# EAGLE library part WE-D-SUB_THT90_MS_214112043 (library WE-D-SUB)
WE-D-SUB Filter Bent 90° THT Characteristics Standard type filtered with 1000 pF High attenuation: max. ≥ 40 dB @ 180 MHz Choice of earthing metal sheet or high speed earthing clip Rated voltage: 100 VDC Rated current @ 20 ��C: 5 A Withstand voltage: 250 VRMS Insulation resistance: min. 1000 MΩ Operating temperature: –55 ºC to +125 ºC Applications Filtering of interfaces External connection to -printer -sensor -display Device and Package Name Note: MS means Size Metal Sheet EC means Size Earthing Clip <https://katalog.we-online.com/media/images/v2/o14704v209%20Family_d-sub_filter_90_abgewinkelt.jpg> Details see: https://katalog.we-online.com/en/pbs/D-SUB-FILTER-BENT90 Updated by Ella Wu 2019-09-11 2019(C) Wurth Elektronik
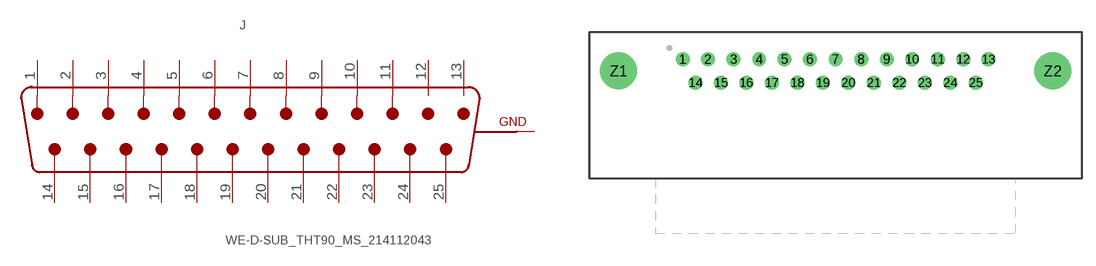
[diagram p23: symbol with the pads of WE-D-SUB_THT90_MS_214112043; footprint WE-D-SUB_THT90_MS_214112043]

Designator prefix J

## WE-D-SUB_THT90_MS_214112043 (DATASHEET-URL: https://katalog.we-online.de/pbs/datasheet/214112043.pdf; MOUNT: THT; PART-NUMBER: 214112043; POLES: 25; TYPE: Male)  [WE-D-SUB_THT90_MS_214112043]
1  1  pas
2  2  pas
3  3  pas
4  4  pas
5  5  pas
6  6  pas
7  7  pas
8  8  pas
9  9  pas
10  10  pas
11  11  pas
12  12  pas
13  13  pas
14  14  pas
15  15  pas
16  16  pas
17  17  pas
18  18  pas
19  19  pas
20  20  pas
21  21  pas
22  22  pas
23  23  pas
24  24  pas
25  25  pas
Z1  GND  pwr
Z2  GND  pwr

## Footprint WE-D-SUB_THT90_MS_214112043 (pad centres in mm)
WE-D-SUB Filter Bent 90° THT 25 Poles , Male MS means Size Metal Sheet EC means Size Earthing Clip
drill 1: 1 -16.56,1.27; 2 -13.82,1.27; 3 -11.05,1.27; 4 -8.28,1.27; 5 -5.54,1.27; 6 -2.77,1.27; 7 0,1.27; 8 2.77,1.27; 9 5.54,1.27; 10 8.28,1.27; 11 11.05,1.27; 12 13.82,1.27; 13 16.56,1.27; 14 -15.19,-1.27; 15 -12.42,-1.27; 16 -9.68,-1.27; 17 -6.91,-1.27; 18 -4.14,-1.27; 19 -1.38,-1.27; 20 1.38,-1.27; 21 4.14,-1.27; 22 6.91,-1.27; 23 9.68,-1.27; 24 12.42,-1.27; 25 15.19,-1.27
drill 3: Z1 -23.5,0; Z2 23.5,0